# Altium footprint library PCB_LSH-120.PcbLib: 2 footprints
Each footprint in its own frame and in the unit in brackets; x right, y up, seen from the top. Pads: shape width x height; smd on the part's side, far side on the other; paste and mask are expansions set on the pad; w line width, h text height; cw(c..) or ccw(c..) is an arc to the next point about the centre after c.
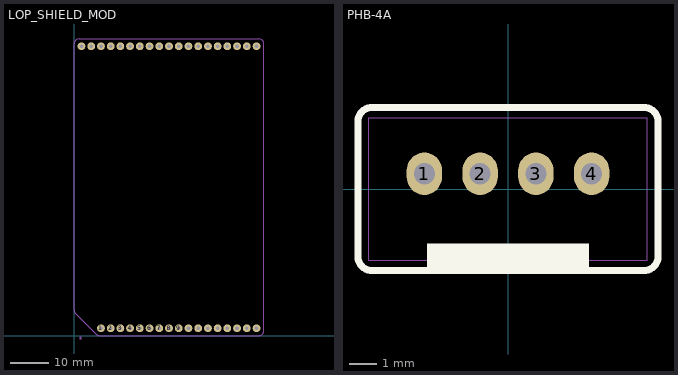
[diagram p0: the footprints below, top view; thin cyan lines are the x and y axes]

## LOP_SHIELD_MOD [mil]
pads (36):
  round 80 hole 38: 1(275,75) 2(375,75) 3(475,75) 4(575,75) 5(675,75) 6(775,75) 7(875,75) 8(975,75) 9(1075,75) 10(1175,75) 11(1275,75) 12(1375,75) 13(1475,75) 14(1575,75) 15(1675,75) 16(1775,75) 17(1875,75) 18(1875,2975) 19(1775,2975) 20(1675,2975) 21(1575,2975) 22(1475,2975) 23(1375,2975) 24(1275,2975) 25(1175,2975) 26(1075,2975) 27(975,2975) 28(875,2975) 29(775,2975) 30(675,2975) 31(575,2975) 32(475,2975) 33(375,2975) 34(275,2975) 35(175,2975) 36(75,2975)
Mechanical 4:
  circle w5: c65,-25 r10
Mechanical 15:
  lines w5: 0,260 ccw(c50,260) 14.64,224.64 224.64,14.64 ccw(c260,50) 260,0 1900,0 ccw(c1900,50) 1950,50 1950,3000 ccw(c1900,3000) 1900,3050 50,3050 ccw(c50,3000) 0,3000 0,260
3D body: height -62.99, standoff -141.73, extent 225,25 325,125
3D body: height 39.37, standoff -590.55, extent 263.19,63.19 286.81,86.81
3D body: height 39.37, standoff -590.55, extent 363.19,63.19 386.81,86.81
3D body: height -62.99, standoff -141.73, extent 325,25 425,125
3D body: height 39.37, standoff -590.55, extent 463.19,63.19 486.81,86.81
3D body: height -62.99, standoff -141.73, extent 425,25 525,125
3D body: height -62.99, standoff -141.73, extent 725,25 825,125
3D body: height 39.37, standoff -590.55, extent 763.19,63.19 786.81,86.81
3D body: height -62.99, standoff -141.73, extent 625,25 725,125
3D body: height 39.37, standoff -590.55, extent 663.19,63.19 686.81,86.81
3D body: height 39.37, standoff -590.55, extent 563.19,63.19 586.81,86.81
3D body: height -62.99, standoff -141.73, extent 525,25 625,125
3D body: height -62.99, standoff -141.73, extent 1025,25 1125,125
3D body: height 39.37, standoff -590.55, extent 1063.19,63.19 1086.81,86.81
3D body: height -62.99, standoff -141.73, extent 925,25 1025,125
3D body: height 39.37, standoff -590.55, extent 963.19,63.19 986.81,86.81
3D body: height 39.37, standoff -590.55, extent 863.19,63.19 886.81,86.81
3D body: height -62.99, standoff -141.73, extent 825,25 925,125
3D body: height -62.99, standoff -141.73, extent 1325,25 1425,125
3D body: height 39.37, standoff -590.55, extent 1363.19,63.19 1386.81,86.81
3D body: height -62.99, standoff -141.73, extent 1225,25 1325,125
3D body: height 39.37, standoff -590.55, extent 1263.19,63.19 1286.81,86.81
3D body: height 39.37, standoff -590.55, extent 1163.19,63.19 1186.81,86.81
3D body: height -62.99, standoff -141.73, extent 1125,25 1225,125
3D body: height -62.99, standoff -141.73, extent 1625,25 1725,125
3D body: height 39.37, standoff -590.55, extent 1663.19,63.19 1686.81,86.81
3D body: height -62.99, standoff -141.73, extent 1525,25 1625,125
3D body: height 39.37, standoff -590.55, extent 1563.19,63.19 1586.81,86.81
3D body: height 39.37, standoff -590.55, extent 1463.19,63.19 1486.81,86.81
3D body: height -62.99, standoff -141.73, extent 1425,25 1525,125
3D body: height -62.99, standoff -141.73, extent 1725,25 1825,125
3D body: height 39.37, standoff -590.55, extent 1763.19,63.19 1786.81,86.81
3D body: height -62.99, standoff -141.73, extent 1825,25 1925,125
3D body: height 39.37, standoff -590.55, extent 1863.19,63.19 1886.81,86.81
3D body: height 39.37, standoff -590.55, extent 1863.19,2963.19 1886.81,2986.81
3D body: height -62.99, standoff -141.73, extent 1825,2925 1925,3025
3D body: height 39.37, standoff -590.55, extent 1763.19,2963.19 1786.81,2986.81
3D body: height -62.99, standoff -141.73, extent 1725,2925 1825,3025
3D body: height -62.99, standoff -141.73, extent 1425,2925 1525,3025
3D body: height 39.37, standoff -590.55, extent 1463.19,2963.19 1486.81,2986.81
3D body: height 39.37, standoff -590.55, extent 1563.19,2963.19 1586.81,2986.81
3D body: height -62.99, standoff -141.73, extent 1525,2925 1625,3025
3D body: height 39.37, standoff -590.55, extent 1663.19,2963.19 1686.81,2986.81
3D body: height -62.99, standoff -141.73, extent 1625,2925 1725,3025
3D body: height -62.99, standoff -141.73, extent 1125,2925 1225,3025
3D body: height 39.37, standoff -590.55, extent 1163.19,2963.19 1186.81,2986.81
3D body: height 39.37, standoff -590.55, extent 1263.19,2963.19 1286.81,2986.81
3D body: height -62.99, standoff -141.73, extent 1225,2925 1325,3025
3D body: height 39.37, standoff -590.55, extent 1363.19,2963.19 1386.81,2986.81
3D body: height -62.99, standoff -141.73, extent 1325,2925 1425,3025
3D body: height -62.99, standoff -141.73, extent 825,2925 925,3025
3D body: height 39.37, standoff -590.55, extent 863.19,2963.19 886.81,2986.81
3D body: height 39.37, standoff -590.55, extent 963.19,2963.19 986.81,2986.81
3D body: height -62.99, standoff -141.73, extent 925,2925 1025,3025
3D body: height 39.37, standoff -590.55, extent 1063.19,2963.19 1086.81,2986.81
3D body: height -62.99, standoff -141.73, extent 1025,2925 1125,3025
3D body: height -62.99, standoff -141.73, extent 525,2925 625,3025
3D body: height 39.37, standoff -590.55, extent 563.19,2963.19 586.81,2986.81
3D body: height 39.37, standoff -590.55, extent 663.19,2963.19 686.81,2986.81
3D body: height -62.99, standoff -141.73, extent 625,2925 725,3025
3D body: height 39.37, standoff -590.55, extent 763.19,2963.19 786.81,2986.81
3D body: height -62.99, standoff -141.73, extent 725,2925 825,3025
3D body: height -62.99, standoff -141.73, extent 425,2925 525,3025
3D body: height 39.37, standoff -590.55, extent 463.19,2963.19 486.81,2986.81
3D body: height -62.99, standoff -141.73, extent 325,2925 425,3025
3D body: height 39.37, standoff -590.55, extent 363.19,2963.19 386.81,2986.81
3D body: height 39.37, standoff -590.55, extent 263.19,2963.19 286.81,2986.81
3D body: height -62.99, standoff -141.73, extent 225,2925 325,3025
3D body: height 39.37, standoff -590.55, extent 163.19,2963.19 186.81,2986.81
3D body: height -62.99, standoff -141.73, extent 125,2925 225,3025
3D body: height 39.37, standoff -590.55, extent 63.19,2963.19 86.81,2986.81
3D body: height -62.99, standoff -141.73, extent 25,2925 125,3025

## PHB-4A [mil]
pads (4):
  oval 50x60 hole 30: 1(-118.11,21.65) 2(-39.37,21.65) 3(39.37,21.65) 4(118.11,21.65)
Top Overlay:
  rectangle: -114.17,-115.39 114.17,-76.77
  lines w10: -211.85,95.39 cw(c-191.85,95.39) -191.85,115.39 191.85,115.39 ; -211.85,95.39 -211.85,95.39 ; -211.85,95.39 -211.85,-95.39 ccw(c-191.85,-95.39) -191.85,-115.39 191.85,-115.39 ; 191.85,-115.39 ccw(c191.85,-95.39) 211.85,-95.39 ; 191.85,-115.39 191.85,-115.39 ; 191.85,115.39 cw(c191.85,95.39) 211.85,95.39 211.85,-95.39 ; 191.85,115.39 191.85,115.39 ; 211.85,-95.39 211.85,-95.39
Mechanical 16:
  lines w1: -196.85,-100.39 -196.85,100.39 196.85,100.39 196.85,-100.39 -196.85,-100.39
3D body: height 322.83, standoff 39.37, extent -196.85,-100.39 -106.3,100.39
3D body: height 275.59, standoff 0, extent -118.11,88.58 118.11,100.39
3D body: height 322.83, standoff 39.37, extent 106.3,-100.39 196.85,100.39
3D body: height 39.37, standoff 0, extent -196.85,-57.09 196.85,100.39
3D body: height 196.85, standoff 0, extent -114.17,-57.09 114.17,-45.28
3D body: height 11.81, standoff 0, extent -196.85,-57.09 196.85,100.39
3D body: height 196.85, standoff -125.98, extent -129.92,9.84 -106.3,33.46
3D body: height 196.85, standoff -125.98, extent -51.18,9.84 -27.56,33.46
3D body: height 196.85, standoff -125.98, extent 27.56,9.84 51.18,33.46
3D body: height 196.85, standoff -125.98, extent 106.3,9.84 129.92,33.46